# Altium schematic symbol library TPS2116DRLR.SchLib: 1 symbol
Pins are listed as number, name and electrical type; pins without a type are passive.

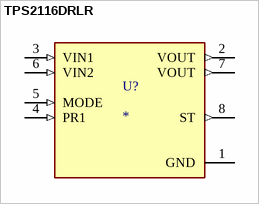
[diagram p0: symbol TPS2116DRLR]

## TPS2116DRLR
designator U?
1.6-V to 5.5-V, 40-mâ„¦, 2.5-A, low-IQ, priority power multiplexer; MF: Texas Instruments; MP: TPS2116DRLR; SnapEDA_Link: https://www.snapeda.com/parts/TPS2116DRLR/Texas+Instruments/view-part/?ref=snap; Package: None; Value: *; Check_prices: https://www.snapeda.com/parts/TPS2116DRLR/Texas+Instruments/view-part/?ref=eda
footprint SOTFL50P160X60-8N
pins: 1 GND (power), 2 VOUT (out), 3 VIN1 (in), 4 PR1 (in), 5 MODE (in), 6 VIN2 (in), 7 VOUT (out), 8 ST (out)